# Altium schematic symbol library RGB043M2屏幕模块-元件库.SchLib: 2 symbols
Pins are listed as number, name and electrical type; pins without a type are passive.

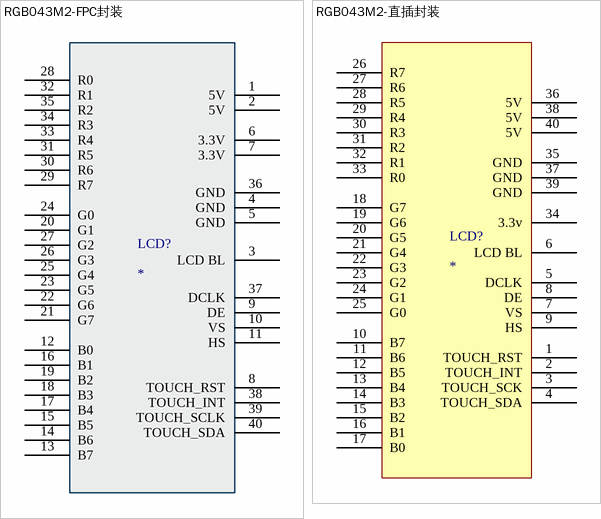
[diagram p0: symbols RGB043M2-FPC封装 to RGB043M2-直插封装]

## RGB043M2-FPC封装
designator LCD?
pins: 1 5V, 2 5V, 3 LCD BL, 4 GND, 5 GND, 6 3.3V, 7 3.3V, 8 TOUCH_RST, 9 DE, 10 VS, 11 HS, 12 B0, 13 B7, 14 B6, 15 B5, 16 B1, 17 B4, 18 B3, 19 B2, 20 G1, 21 G7, 22 G6, 23 G5, 24 G0, 25 G4, 26 G3, 27 G2, 28 R0, 29 R7, 30 R6, 31 R5, 32 R1, 33 R4, 34 R3, 35 R2, 36 GND, 37 DCLK, 38 TOUCH_INT, 39 TOUCH_SCLK, 40 TOUCH_SDA

## RGB043M2-直插封装
designator LCD?
pins: 1 TOUCH_RST, 2 TOUCH_INT, 3 TOUCH_SCK, 4 TOUCH_SDA, 5 DCLK, 6 LCD BL, 7 VS, 8 DE, 9 HS, 10 B7, 11 B6, 12 B5, 13 B4, 14 B3, 15 B2, 16 B1, 17 B0, 18 G7, 19 G6, 20 G5, 21 G4, 22 G3, 23 G2, 24 G1, 25 G0, 26 R7, 27 R6, 28 R5, 29 R4, 30 R3, 31 R2, 32 R1, 33 R0, 34 3.3v, 35 GND, 36 5V, 37 GND, 38 5V, 39 GND, 40 5V